# Altium schematic symbol library A8513KLYTR-T.SchLib: 1 symbol
Pins are listed as number, name and electrical type; pins without a type are passive.

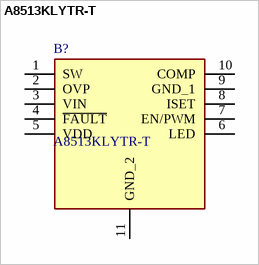
[diagram p0: symbol A8513KLYTR-T]

## A8513KLYTR-T
designator B?
Backlight Driver For Small/Medium Size LCDs; Manufacturer_Name: Allegro Microsystems; Geometry.Height: 1.06mm; Arrow Part Number: A8513KLYTR-T; Arrow Price/Stock: *; Manufacturer_Part_Number: A8513KLYTR-T; Datasheet Link: http://www.allegromicro.com/~/media/files/datasheets/a8513-datasheet.pdf
footprint SOP50P488X106-11N
pins: 1 SW, 2 OVP, 3 VIN, 4 ~{FAULT}, 5 VDD, 6 LED, 7 EN/PWM, 8 ISET, 9 GND_1, 10 COMP, 11 GND_2